# Altium schematic symbol library Schematic_Motors.SchLib: 1 symbol
Pins are listed as number, name and electrical type; pins without a type are passive.

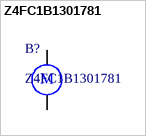
[diagram p0: symbol Z4FC1B1301781]

## Z4FC1B1301781
designator B?
VIBRATION MOTOR CYL 2.7V SMD; Manufacturer: Jinlong Machinery & Electronics; RPM: 10000RPM; Supplier 1: Digi-Key; Manufacturer Part Number: Z4FC1B1301781; Stock 1: 7323; Pricing 1: 1=3.49, 5=3.302, 10=3.21, 25=3.1184, 50=2.843, 100=2.568, 250=2.4762, 500=2.4396 (USD); Min Operating Temperature: -20°C; Max Operating Temperature: 70°C; Termination: SMD/SMT
footprint Z4FC1B1301781 (Vibration Motor 10.9 x 4.5 x 4.85mm)
pins: 1, 2
text: M